# Altium footprint library Resistors.PcbLib: 5 footprints
Each footprint in its own frame and in the unit in brackets; x right, y up, seen from the top. Pads: shape width x height; smd on the part's side, far side on the other; paste and mask are expansions set on the pad; w line width, h text height; cw(c..) or ccw(c..) is an arc to the next point about the centre after c.
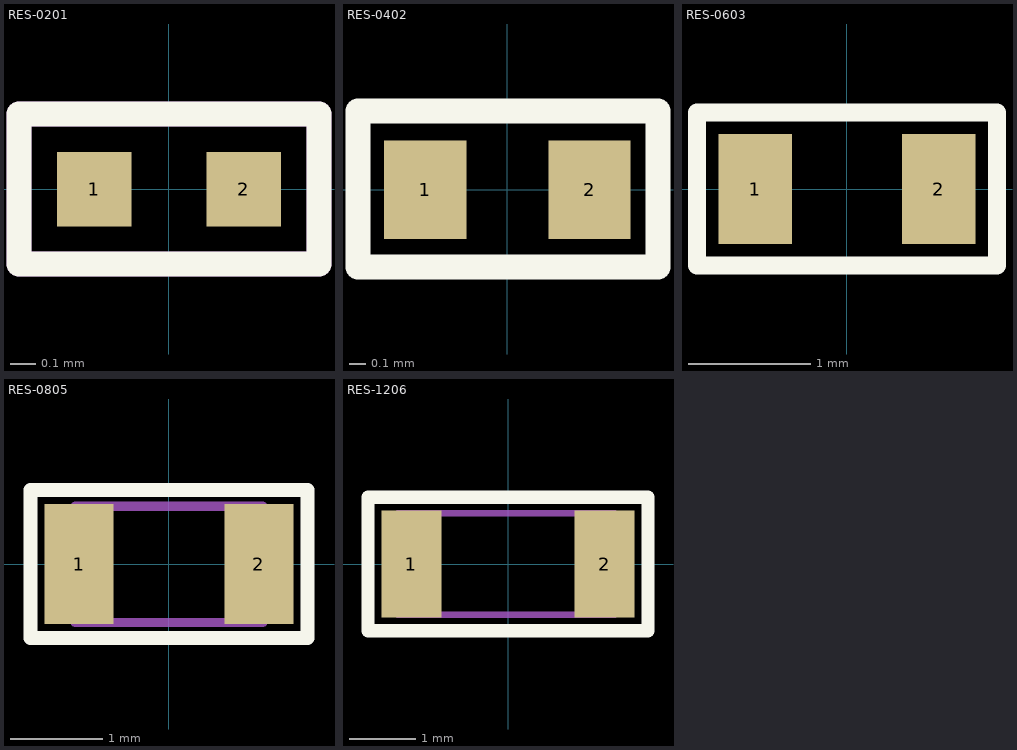
[diagram p0: the footprints below, top view; thin cyan lines are the x and y axes]

## RES-0201 [mm]
pads (2):
  rect 0.3x0.3 smd: 1(-0.3,0) 2(0.3,0)
Top Overlay:
  lines w0.1: -0.601,-0.3 0.602,-0.3 0.602,0.302 -0.601,0.302 -0.601,-0.3
Top Assembly:
  lines w0.1: -0.601,-0.3 -0.601,0.302 0.602,0.302 0.602,-0.3 -0.601,-0.3
Top Courtyard:
  lines w0.1: -0.601,-0.3 0.602,-0.3 0.602,0.302 -0.601,0.302 -0.601,-0.3
Top Designator:
  text ".Designator" at -1.499,-0.099 h0.3
3D body "RES 0201.STEP": height 0.21, standoff -0.01, extent -0.3,-0.15 0.3,0.15

## RES-0402 [mm]
pads (2):
  rect 0.5x0.6 smd: 1(-0.5,0) 2(0.5,0)
Top Overlay:
  lines w0.15: -0.909,-0.471 0.916,-0.471 0.916,0.478 -0.909,0.478 -0.909,-0.471
Top Assembly:
  lines w0.1: -0.909,-0.471 -0.909,0.478 ; -0.909,-0.471 0.916,-0.471 ; -0.909,-0.471 0.916,-0.471 ; -0.909,-0.471 -0.909,0.478 ; -0.909,0.478 0.916,0.478 ; -0.909,0.478 0.916,0.478 ; 0.916,-0.471 0.916,0.478 ; 0.916,-0.471 0.916,0.478
Top Courtyard:
  lines w0.1: -0.909,-0.471 -0.909,0.478 ; -0.909,-0.471 0.916,-0.471 ; -0.909,-0.471 0.916,-0.471 ; -0.909,-0.471 -0.909,0.478 ; -0.909,0.478 0.916,0.478 ; -0.909,0.478 0.916,0.478 ; 0.916,-0.471 0.916,0.478 ; 0.916,-0.471 0.916,0.478
Top Designator:
  text ".Designator" at -1.996,-0.129 h0.4
3D body "0402 resistor.STEP": height 0.35, standoff 0, extent -0.5,-0.275 0.5,0.225

## RES-0603 [mm]
pads (2):
  rect 0.6x0.9 smd: 1(-0.75,0) 2(0.75,0)
Top Overlay:
  lines w0.15: -1.225,-0.625 -1.225,0.625 1.225,0.625 1.225,-0.625 -1.225,-0.625
Top Assembly:
  lines w0.1: -1.225,-0.625 1.225,-0.625 1.225,0.625 -1.225,0.625 -1.225,-0.625
Top Courtyard:
  lines w0.1: -1.225,-0.625 1.225,-0.625 1.225,0.625 -1.225,0.625 -1.225,-0.625
Top Designator:
  text ".Designator" at -2.999,-0.2 h0.6
3D body "0603 resistor.STEP": height 0.45, standoff 0, extent -0.8,-0.425 0.8,0.375

## RES-0805 [mm]
pads (2):
  rect 0.75x1.3 smd: 1(-0.975,0) 2(0.975,0)
Top Overlay:
  lines w0.15: -1.5,-0.8 -1.5,0.5 -1.5,0.8 1.5,0.8 1.5,-0.5 1.5,-0.8 0.65,-0.8 -0.65,-0.8 -1.5,-0.8
Top Assembly:
  lines w0.1: -1.016,-0.635 -1.016,0.625 1.016,0.625 1.016,-0.635 -1.016,-0.635
Top Courtyard:
  lines w0.1: -1.5,-0.8 1.5,-0.8 1.5,0.8 -1.5,0.8 -1.5,-0.8
Top Designator:
  text ".Designator" at -2.999,-0.2 h0.6
3D body "0805 resistor.STEP": height 0.6, standoff 0, extent -1,-0.625 1,0.625

## RES-1206 [mm]
pads (2):
  rect 0.9x1.6 smd: 1(-1.45,0) 2(1.45,0)
Top Overlay:
  lines w0.2: -2.1,-1 -2.1,1 2.1,1 2.1,-1 -2.1,-1
Top Assembly:
  lines w0.1: -1.651,-0.762 1.6,-0.762 1.6,0.762 -1.651,0.762 -1.651,-0.762
Top Courtyard:
  lines w0.1: -2.1,-1 -2.1,1 2.1,1 2.1,-1 -2.1,-1
Top Designator:
  text ".Designator" at -2.999,-0.2 h0.6
3D body "1206 resistor.STEP": height 0.6, standoff 0, extent -1.6,-0.8 1.6,0.8